# Altium footprint library 封装库.PcbLib: 4 footprints
Each footprint in its own frame and in the unit in brackets; x right, y up, seen from the top. Pads: shape width x height; smd on the part's side, far side on the other; paste and mask are expansions set on the pad; w line width, h text height; cw(c..) or ccw(c..) is an arc to the next point about the centre after c.
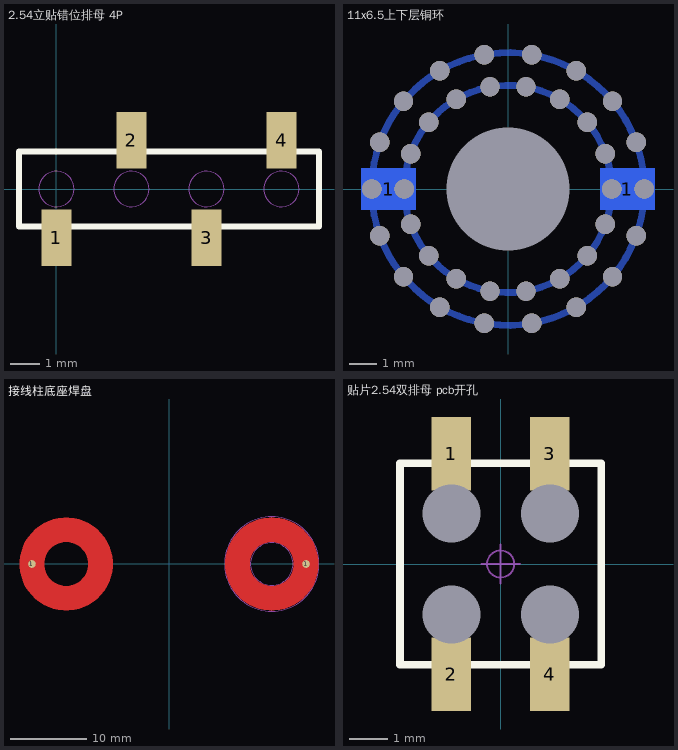
[diagram p0: the footprints below, top view; thin cyan lines are the x and y axes]

## 2.54立贴错位排母 4P [mm] "排针，4脚"
pads (4):
  rect 1x1.9 smd: 1(0,-1.65) 2(2.54,1.65) 3(5.08,-1.65) 4(7.62,1.65)
Top Overlay:
  lines w0.2: -1.27,-1.27 8.89,-1.27 8.89,1.27 -1.27,1.27 -1.27,-1.27
Mechanical 1:
  circle w0.025: c2.54,0 r0.6
  circle w0.025: c0,0 r0.6
  circle w0.025: c5.08,0 r0.6
  circle w0.025: c7.62,0 r0.6
3D body "4p贴片排母.SLDPRT": height 4.3, standoff 0, extent -1.29,-1.2 8.91,1.2

## 11x6.5上下层铜环 [mm]
pads (3):
  round 0 hole 4.5: 0(0,0)
  rect 2x1.524 smd far side paste-10: 1(-4.375,0) 1(4.375,0)
via -2.911,2.443 diameter 0.711 hole 0.711
via -3.83,3.214 diameter 0.711 hole 0.711
via -1.9,3.291 diameter 0.711 hole 0.711
via -2.5,4.33 diameter 0.711 hole 0.711
via -0.66,3.742 diameter 0.711 hole 0.711
via -0.868,4.924 diameter 0.711 hole 0.711
via -1.9,-3.291 diameter 0.711 hole 0.711
via -2.5,-4.33 diameter 0.711 hole 0.711
via -2.911,-2.443 diameter 0.711 hole 0.711
via -3.83,-3.214 diameter 0.711 hole 0.711
via -3.571,-1.3 diameter 0.711 hole 0.711
via -4.698,-1.71 diameter 0.711 hole 0.711
via -3.8,0 diameter 0.711 hole 0.711
via -5,0 diameter 0.711 hole 0.711
via -3.571,1.3 diameter 0.711 hole 0.711
via -4.698,1.71 diameter 0.711 hole 0.711
via 3.571,-1.3 diameter 0.711 hole 0.711
via 4.698,-1.71 diameter 0.711 hole 0.711
via 2.911,-2.443 diameter 0.711 hole 0.711
via 3.83,-3.214 diameter 0.711 hole 0.711
via 1.9,-3.291 diameter 0.711 hole 0.711
via 2.5,-4.33 diameter 0.711 hole 0.711
via 0.66,-3.742 diameter 0.711 hole 0.711
via 0.868,-4.924 diameter 0.711 hole 0.711
via -0.66,-3.742 diameter 0.711 hole 0.711
via -0.868,-4.924 diameter 0.711 hole 0.711
via 0.66,3.742 diameter 0.711 hole 0.711
via 0.868,4.924 diameter 0.711 hole 0.711
via 1.9,3.291 diameter 0.711 hole 0.711
via 2.5,4.33 diameter 0.711 hole 0.711
via 2.911,2.443 diameter 0.711 hole 0.711
via 3.83,3.214 diameter 0.711 hole 0.711
via 3.571,1.3 diameter 0.711 hole 0.711
via 4.698,1.71 diameter 0.711 hole 0.711
via 3.8,0 diameter 0.711 hole 0.711
via 5,0 diameter 0.711 hole 0.711
Bottom Layer:
  circle w0.254: c0,0 r5
  circle w0.254: c0,0 r3.8
Bottom Solder:
  region: 5.5,0 5.5,0.36 5.406,1.075 5.219,1.772 4.943,2.438 4.583,3.062 4.144,3.634 3.634,4.144 3.062,4.583 2.438,4.943 1.772,5.219 1.075,5.406 0.36,5.5 -0.36,5.5 -1.075,5.406 -1.772,5.219 -2.438,4.943 -3.062,4.583 -3.634,4.144 -4.144,3.634 -4.583,3.062 -4.943,2.438 -5.219,1.772 -5.406,1.075 -5.5,0.36 -5.5,0 -3.25,0 -3.24,0.255 -3.16,0.759 -3.003,1.244 -2.771,1.698 -2.471,2.111 -2.111,2.471 -1.698,2.771 -1.244,3.003 -0.759,3.16 -0.255,3.24 0.255,3.24 0.759,3.16 1.244,3.003 1.698,2.771 2.111,2.471 2.471,2.111 2.771,1.698 3.003,1.244 3.16,0.759 3.24,0.255 3.25,0
  region: 5.5,0 5.5,-0.36 5.406,-1.075 5.219,-1.772 4.943,-2.438 4.583,-3.062 4.144,-3.634 3.634,-4.144 3.062,-4.583 2.438,-4.943 1.772,-5.219 1.075,-5.406 0.36,-5.5 -0.36,-5.5 -1.075,-5.406 -1.772,-5.219 -2.438,-4.943 -3.062,-4.583 -3.634,-4.144 -4.144,-3.634 -4.583,-3.062 -4.943,-2.438 -5.219,-1.772 -5.406,-1.075 -5.5,-0.36 -5.5,0 -3.25,0 -3.24,-0.255 -3.16,-0.759 -3.003,-1.244 -2.771,-1.698 -2.471,-2.111 -2.111,-2.471 -1.698,-2.771 -1.244,-3.003 -0.759,-3.16 -0.255,-3.24 0.255,-3.24 0.759,-3.16 1.244,-3.003 1.698,-2.771 2.111,-2.471 2.471,-2.111 2.771,-1.698 3.003,-1.244 3.16,-0.759 3.24,-0.255 3.25,0

## 接线柱底座焊盘 [mm]
pads (2):
  round 1 smd: 1(-18,0) 1(18,0)
Top Layer:
  region: -13.5,-6.1 -13.843,-6.1 -14.523,-6.023 -15.191,-5.871 -15.838,-5.645 -16.455,-5.347 -17.036,-4.983 -17.571,-4.556 -18.056,-4.071 -18.483,-3.536 -18.847,-2.955 -19.145,-2.338 -19.371,-1.691 -19.523,-1.023 -19.6,-0.343 -19.6,0.342 -19.523,1.023 -19.371,1.691 -19.145,2.338 -18.847,2.955 -18.483,3.535 -18.056,4.071 -17.571,4.556 -17.036,4.983 -16.455,5.347 -15.838,5.644 -15.191,5.871 -14.523,6.023 -13.843,6.1 -13.5,6.1 -13.5,2.9 -13.728,2.891 -14.177,2.82 -14.61,2.679 -15.015,2.473 -15.384,2.205 -15.705,1.883 -15.973,1.515 -16.179,1.11 -16.32,0.677 -16.391,0.227 -16.391,-0.228 -16.32,-0.677 -16.179,-1.11 -15.973,-1.515 -15.705,-1.883 -15.384,-2.205 -15.015,-2.473 -14.61,-2.679 -14.177,-2.82 -13.728,-2.891 -13.5,-2.9
  region: -13.5,-6.1 -13.158,-6.1 -12.477,-6.023 -11.809,-5.871 -11.162,-5.645 -10.545,-5.347 -9.965,-4.983 -9.429,-4.556 -8.945,-4.071 -8.517,-3.536 -8.153,-2.955 -7.856,-2.338 -7.629,-1.691 -7.477,-1.023 -7.4,-0.343 -7.4,0.342 -7.477,1.023 -7.629,1.691 -7.856,2.338 -8.153,2.955 -8.517,3.535 -8.945,4.071 -9.429,4.556 -9.965,4.983 -10.545,5.347 -11.162,5.644 -11.809,5.871 -12.477,6.023 -13.158,6.1 -13.5,6.1 -13.5,2.9 -13.273,2.891 -12.823,2.82 -12.39,2.679 -11.985,2.473 -11.617,2.205 -11.295,1.883 -11.028,1.515 -10.821,1.11 -10.68,0.677 -10.609,0.227 -10.609,-0.228 -10.68,-0.677 -10.821,-1.11 -11.028,-1.515 -11.295,-1.883 -11.617,-2.205 -11.985,-2.473 -12.39,-2.679 -12.823,-2.82 -13.273,-2.891 -13.5,-2.9
  region: 13.5,-6.1 13.157,-6.1 12.477,-6.023 11.809,-5.871 11.162,-5.645 10.545,-5.347 9.965,-4.983 9.429,-4.556 8.944,-4.071 8.517,-3.536 8.153,-2.955 7.855,-2.338 7.629,-1.691 7.477,-1.023 7.4,-0.343 7.4,0.342 7.477,1.023 7.629,1.691 7.855,2.338 8.153,2.955 8.517,3.535 8.944,4.071 9.429,4.556 9.965,4.983 10.545,5.347 11.162,5.644 11.809,5.871 12.477,6.023 13.157,6.1 13.5,6.1 13.5,2.9 13.272,2.891 12.823,2.82 12.39,2.679 11.985,2.473 11.617,2.205 11.295,1.883 11.027,1.515 10.821,1.11 10.68,0.677 10.609,0.227 10.609,-0.228 10.68,-0.677 10.821,-1.11 11.027,-1.515 11.295,-1.883 11.617,-2.205 11.985,-2.473 12.39,-2.679 12.823,-2.82 13.272,-2.891 13.5,-2.9
  region: 13.5,-6.1 13.842,-6.1 14.523,-6.023 15.191,-5.871 15.838,-5.645 16.455,-5.347 17.035,-4.983 17.571,-4.556 18.056,-4.071 18.483,-3.536 18.847,-2.955 19.144,-2.338 19.371,-1.691 19.523,-1.023 19.6,-0.343 19.6,0.342 19.523,1.023 19.371,1.691 19.144,2.338 18.847,2.955 18.483,3.535 18.056,4.071 17.571,4.556 17.035,4.983 16.455,5.347 15.838,5.644 15.191,5.871 14.523,6.023 13.842,6.1 13.5,6.1 13.5,2.9 13.727,2.891 14.177,2.82 14.61,2.679 15.015,2.473 15.383,2.205 15.705,1.883 15.973,1.515 16.179,1.11 16.32,0.677 16.391,0.227 16.391,-0.228 16.32,-0.677 16.179,-1.11 15.973,-1.515 15.705,-1.883 15.383,-2.205 15.015,-2.473 14.61,-2.679 14.177,-2.82 13.727,-2.891 13.5,-2.9
Top Paste:
  drawing of 4 lines, arcs and shapes, not listed
Mechanical 2:
  lines w0.013: 13.5,-6.2 13.5,-2.8 ; 13.5,2.8 13.5,6.2
  lines w0.025: 13.5,-6.2 ccw(c13.5,0) 13.5,6.2 ccw(c13.5,0) 13.5,-6.2 ; 13.5,-2.8 ccw(c13.5,0) 13.5,2.8 ccw(c13.5,0) 13.5,-2.8
3D body "ks_jx_t02.SLDPRT": height 36.5, standoff 1.5, extent -19.5,-6 19.5,6
3D body "m6-12-1.5镀锡垫圈.SLDPRT": height 1.5, standoff 0, extent -19.497,-6 -7.503,5.988
3D body "m6-12-1.5镀锡垫圈.SLDPRT": height 1.5, standoff 0, extent 7.503,-6 19.497,5.988

## 贴片2.54双排母 pcb开孔 [mm] "脚距：2.54mm，贴片双排母"
pads (8):
  round 0 hole 1.5: 1(-1.27,1.3) 2(-1.27,-1.3) 3(1.27,1.3) 4(1.27,-1.3)
  rect 1.02x1.9 smd: 1(-1.27,2.85) 2(-1.27,-2.85) 3(1.27,2.85) 4(1.27,-2.85)
Top Overlay:
  lines w0.2: -2.6,-2.6 2.6,-2.6 2.6,2.6 -2.6,2.6 -2.6,-2.6 ; -1.681,-1.681 -0.919,-1.681 -0.919,-0.919 -1.681,-0.919 -1.681,-1.681 ; -1.681,0.919 -0.919,0.919 -0.919,1.681 -1.681,1.681 -1.681,0.919 ; 0.919,-1.681 1.681,-1.681 1.681,-0.919 0.919,-0.919 0.919,-1.681 ; 0.919,0.919 1.681,0.919 1.681,1.681 0.919,1.681 0.919,0.919
Mechanical 15:
  circle w0.05: c0,0 r0.35
  lines w0.05: -0.5,0 0.5,0 ; 0,-0.5 0,0.5
3D body "HDR2.54 2x1P_M.STEP": height 5.15, standoff 0, extent -2.57,-3.2 0.03,3.2
3D body "HDR2.54 2x1P_M.STEP": height 5.15, standoff 0, extent -0.03,-3.2 2.57,3.2